# EAGLE library part SKY66111 (library skyworks)
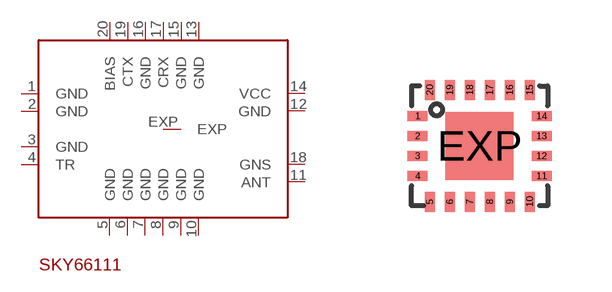
[diagram p1: symbol with the pads of SM-MCM-20; footprint SM-MCM-20]

Designator prefix -

## SKY66111  [SM-MCM-20]
1  GND
2  GND
3  GND
4  TR
5  GND
6  GND
7  GND
8  GND
9  GND
10  GND
11  ANT
12  GND
13  GND
14  VCC
15  GND
16  GND
17  CRX
18  GNS
19  CTX
20  BIAS
EXP  EXP

## Footprint SM-MCM-20 (pad centres in mm)
smd 0.5 x 0.25: 1 -1.55,0.75; 2 -1.55,0.25; 3 -1.55,-0.25; 4 -1.55,-0.75; 11 1.55,-0.75; 12 1.55,-0.25; 13 1.55,0.25; 14 1.55,0.75
smd 0.25 x 0.5: 5 -1.25,-1.4; 6 -0.75,-1.4; 7 -0.25,-1.4; 8 0.25,-1.4; 9 0.75,-1.4; 10 1.25,-1.4; 15 1.25,1.4; 16 0.75,1.4; 17 0.25,1.4; 18 -0.25,1.4; 19 -0.75,1.4; 20 -1.25,1.4
smd 1.7 x 1.7: EXP 0,0